# EAGLE library part AD8429ARZ (library amplifiers)
Instrumentation Amplifier
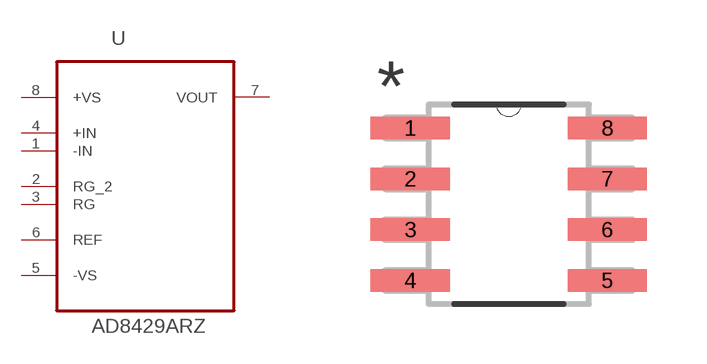
[diagram p1: symbol with the pads of SOIC127P600X175-8N; footprint SOIC127P600X175-8N]

Designator prefix U

## AD8429ARZ (MPN: AD8429ARZ; OC_FARNELL: 1971715; OC_NEWARK: 58T4524; PACKAGE: SOIC-8; SUPPLIER: Analog Devices)  [SOIC127P600X175-8N]
1  -IN  in
2  RG_2  in
3  RG  in
4  +IN  in
5  -VS  pwr
6  REF  in
7  VOUT  out
8  +VS  pwr

## Footprint SOIC127P600X175-8N (pad centres in mm)
smd 1.981 x 0.559: 1 -2.464,1.905; 2 -2.464,0.635; 3 -2.464,-0.635; 4 -2.464,-1.905; 5 2.464,-1.905; 6 2.464,-0.635; 7 2.464,0.635; 8 2.464,1.905